# Altium schematic symbol library web.skorpio.SchLib: 147 symbols (part 1 of 2)
Pins are listed as number, name and electrical type; pins without a type are passive.

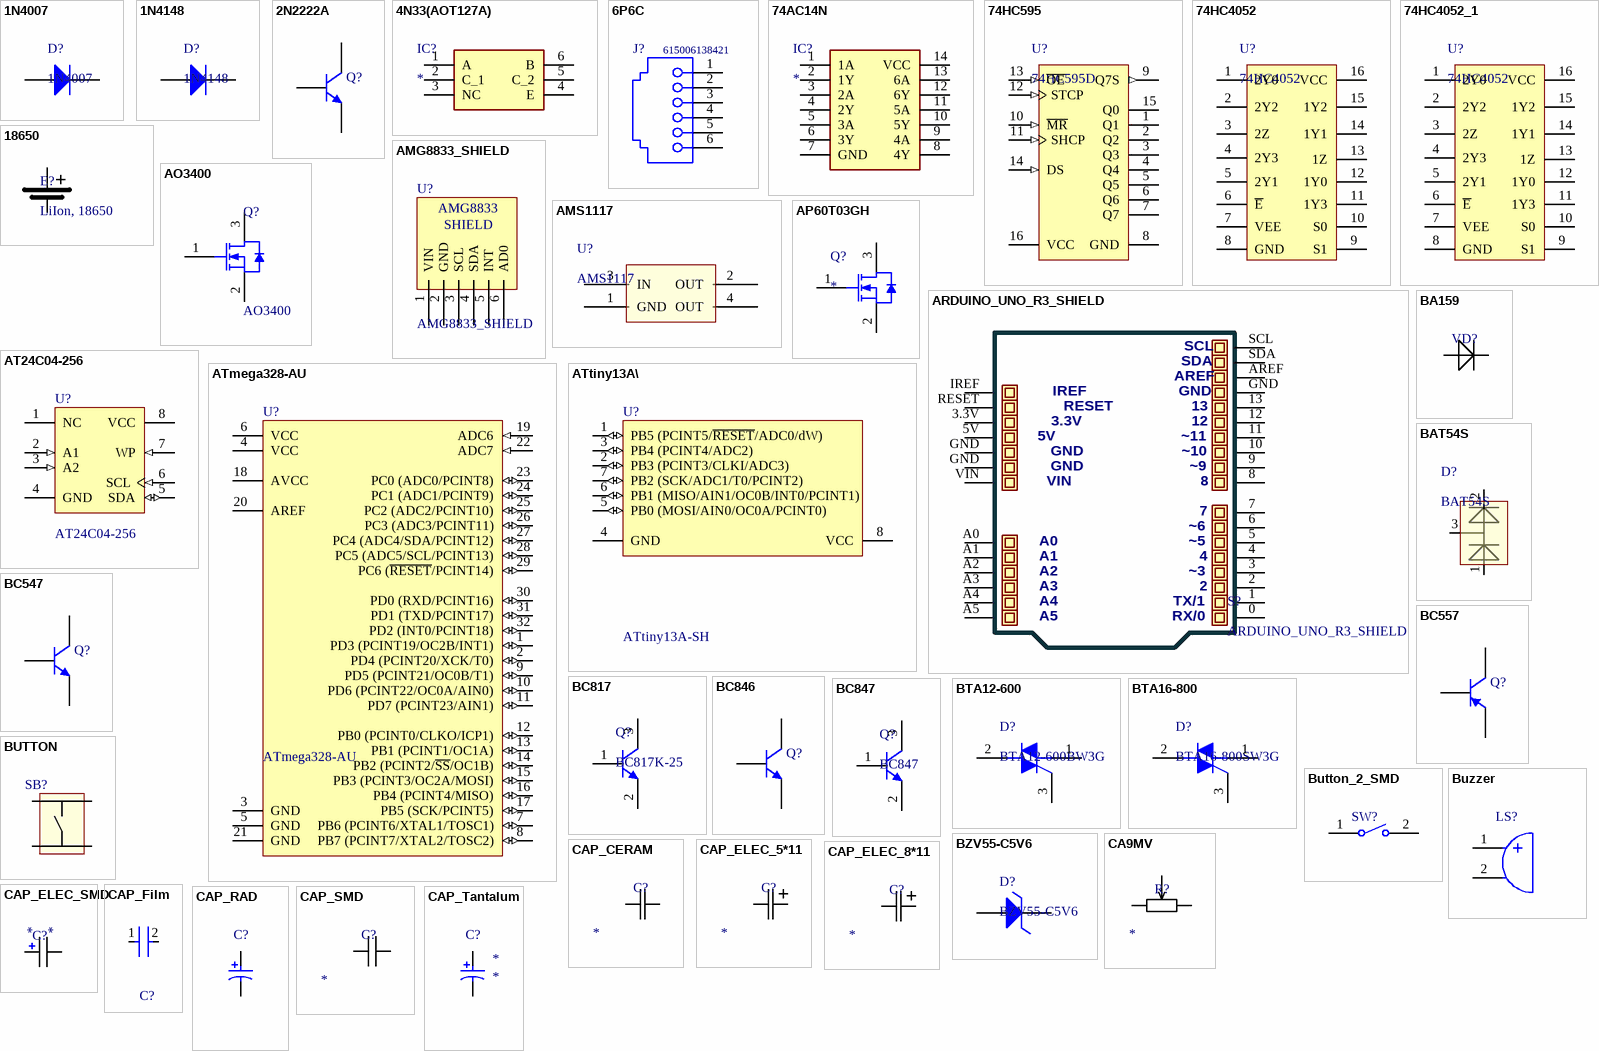
[diagram p0: symbols 1N4007 to CAP_Tantalum]

## 1N4007
designator D?
1 A Rectifier Diode, 1000 V, -65 to 175 degC, 2-Pin DO-214AC; Manufacturer: Kesenes; CD: 15 pF; VF: 1.1 V; VPK: 1000 V; IR DC: 0.05 mA; IFSM: 30 A; ComponentLink2Description: Datasheet; ComponentLink3URL: http://www.kesenes.com/PDF/1n4001-1n4007.pdf; PartNumber: 1N4007; PackageReference: DO-214AC-2; Mounting Technology: Surface Mount; PackageVersion: Mar-06; ComponentLink1Description: Manufacturer URL; ComponentLink2URL: http://www.kesenes.com/PDF/1n4001-1n4007.pdf; Operating Temperature Range: -65 to 175 degC; ComponentLink3Description: Package Specification; DatasheetVersion: Mar-06; PackageDescription: 2-Pin SMD, Body 4.2925 x 2.6925 mm, Height 2.438 mm; ComponentLink1URL: http://www.kesenes.com/
footprint DO-214 (Molded Diode, 2-Leads, Body 5,10x2,67mm, IPC Medium Density)
footprint DO-41
pins: 1 K, 2 A

## 1N4148
designator D?
High-Speed Switching Diode, 75 V, 200 mA, -60 to 200 degC, 2-Pin SOD80C, RoHS, Tape and Reel; Manufacturer: NXP Semiconductors; Current - Average Rectified (Io): 200mA(DC); Current - Reverse Leakage @ Vr: 25nA@20V; Online Catalog: StandardDiode; Capacitance @ Vr, F: 4pF@0V,1MHz; Speed: SmallSignal=; Other Names: 568-1749-6; Voltage - Forward (Vf) (Max) @ If: 1V@50mA; Diode Type: Standard; PCN Other: SOD27,66,68,80Package29/Jul/2013; Reverse Recovery Time (trr): 4ns; Voltage - DC Reverse (Vr) (Max): 75V; Mounting Type: SurfaceMount; Package / Case: DO-213AC,MINI-MELF,SOD-80; Family: Diodes,Rectifiers-Single; Package Reference: SOD80C; Standard Package: 1; Operating Temperature - Junction: 200degC(Max); Category: DiscreteSemiconductorProducts; Datasheet URL: http://www.nxp.com/documents/data_sheet/PMLL4148L_PMLL4448.pdf; Package Description: 2-Pin Metal Electrode Face Component, Body 3.5 x 1.525 mm; Supplier Device Package: LLDS;MiniMelf; Manufacturer URL: http://www.nxp.com/; Datasheet Version: Rev. 8, 02/2011; Packaging: Digi-Reel
footprint SOD80 (MELF Diode, 2-Leads, Body 3.70x1.6mm)
pins: 1 A, 2 K

## 2N2222A
designator Q?
NPN Bipolar Transistor; Published: 8-Jun-2000; LatestRevisionDate: 17-Jul-2002; LatestRevisionNote: Re-released for DXP Platform.; PackageReference: TO-226-AA; Publisher: Altium Limited; PackageDescription: TO, Flat Index; 3 In-Line, Axial Leads; Body Dia. 4.8mm; Leads 0.55 x 0.51 mm (max); Code_JEDEC: TO-226-AA
footprint SOT23
footprint TO-92 (TO, Flat Index; 3 In-Line, Axial Leads; Body Dia. 4.6mm; Leads 0.41 x 0.39 mm (max))
pins: 1 C, 2 B, 3 E

## 4N33(AOT127A)
designator IC?
Integrated Circuit; Manufacturer_Name: Vishay; Manufacturer_Part_Number: 4N33; Datasheet Link: https://componentsearchengine.com/Datasheets/2/4N33.pdf; Height: 4.61mm; Mouser Part Number: 78-4N33; Mouser Price/Stock: https://www.mouser.co.uk/ProductDetail/Vishay-Semiconductors/4N33?qs=o4busQjUnQZ1F9h5Mt7Sqw%3D%3D; Arrow Part Number: 4N33; Arrow Price/Stock: https://www.arrow.com/en/products/4n33/vishay?region=nac
footprint DIP-6 (DIP; 6 Leads; Row Spacing 7.62 mm; Pitch 2.54 mm)
pins: 1 A, 2 C_1, 3 NC, 4 E, 5 C_2, 6 B

## 6P6C
designator J?, comment 615006138421
Modular Jack WR-MJ, Tab Up, Plastic, Horizontal Entry, THT, 6P6C; Manufacturer: Wurth Elektronik; Contact Resistance: 20mOhm; Working Voltage: 120VAC; Withstanding Voltage: 1000VAC; Compliance: Leadfree/RoHS; Rated Current: 1.5A; Port: 1x1; Mounting Technology: THT; Pin Number: 6P6C; Part Number: 615006138421; Publisher: WurthElektronik; Manufacturer URL: http://www.we-online.de; Operating Temperature: -40to85degC; Datasheet URL: https://katalog.we-online.com/em/datasheet/615006138421.pdf; Packaging: Tray; Entrance: Horizontal; Package Reference: 615006138421
footprint 6P6C (Modular Jack Horizontal Plastic 6P6C Tab Up)
pins: 1, 2, 3, 4, 5, 6

## 74AC14N
designator IC?
Integrated Circuit; Manufacturer_Name: Texas Instruments; Manufacturer_Part_Number: SN74AC14N; Datasheet Link: http://uk.rs-online.com/web/p/products/6630950; Height: 5.08mm; Mouser Part Number: 595-SN74AC14N; Mouser Price/Stock: https://www.mouser.co.uk/ProductDetail/Texas-Instruments/SN74AC14N?qs=UGVLDq%2F29ujQj6ByEVkrRQ%3D%3D; Arrow Part Number: SN74AC14N; Arrow Price/Stock: https://www.arrow.com/en/products/sn74ac14n/texas-instruments?region=nac
footprint DIP14 (DIP, 14-Leads, Body 19.7x6.6mm, Pitch 2.54mm)
pins: 1 1A, 2 1Y, 3 2A, 4 2Y, 5 3A, 6 3Y, 7 GND, 8 4Y, 9 4A, 10 5Y, 11 5A, 12 6Y, 13 6A, 14 VCC

## 74HC595
designator U?, comment 74HC595D
8-Bit Serial-In, Serial or Parallel-Out Shift Register with Output Latches, 3-State, 2 to 6 V, -40 to 125 degC, 16-Pin SOP, RoHS, Tube; Manufacturer: NXP Semiconductors; Logic Case Style: SOIC; Shift Register Function: SerialtoParallel,SerialtoSerial; No. of Elements: 1Element; Supply Voltage Min: 2V; SVHC: NoSVHC(17-Dec-2014); Supply Voltage Max: 6V; IC Output Type: TriState; No. of Pins: 16Pins; Operating Temperature Min: -40degC; Operating Temperature Max: 125degC; MSL: MSL1-Unlimited; Datasheet URL: http://datasheet.octopart.com/74HC595D%2C112-Philips-datasheet-11979826.pdf; Package Reference: SOT109-1; Manufacturer URL: http://www.nxp.com/; Package URL: http://www.nxp.com/documents/outline_drawing/SOT109-1.pdf; Datasheet Version: Rev. 6, 12/2011; Packaging: Each; Package Description: 16-Pin Small Outline Integrated Circuit, Body 9.9 x 3.9 mm, Pitch 1.27 mm; Logic Type: ShiftRegister
footprint SO-16_L (SOIC, 16-Leads, Body 9.9x3.9mm, Pitch 1.27mm, IPC High Density)
footprint DIP16
pins: 1 Q1 (hiz) "parallel data output 1", 2 Q2 (hiz) "parallel data output 2", 3 Q3 (hiz) "parallel data output 3", 4 Q4 (hiz) "parallel data output 4", 5 Q5 (hiz) "parallel data output 5", 6 Q6 (hiz) "parallel data output 6", 7 Q7 (hiz) "parallel data output 7", 8 GND (power) "ground (0 V)", 9 Q7S (out) "serial data output", 10 ~{MR} (in) "master reset (active LOW)", 11 SHCP (in) "shift register clock input", 12 STCP (in) "storage register clock input", 13 ~{OE} (in) "output enable input (active LOW)", 14 DS (in) "serial data input", 15 Q0 (hiz) "parallel data output 0", 16 VCC (power) "supply voltage"

## 74HC4052
designator U?
Manufacturer: NXP Semiconductors; Logic Case Style: SOIC; Shift Register Function: SerialtoParallel,SerialtoSerial; No. of Elements: 1Element; Supply Voltage Min: 2V; SVHC: NoSVHC(17-Dec-2014); Supply Voltage Max: 6V; IC Output Type: TriState; No. of Pins: 16Pins; Logic Type: ShiftRegister; Operating Temperature Min: -40degC; Operating Temperature Max: 125degC; MSL: MSL1-Unlimited; Datasheet URL: http://datasheet.octopart.com/74HC595D%2C112-Philips-datasheet-11979826.pdf; Package Reference: SOT109-1; Manufacturer URL: http://www.nxp.com/; Package URL: http://www.nxp.com/documents/outline_drawing/SOT109-1.pdf; Datasheet Version: Rev. 6, 12/2011; Packaging: Each; Package Description: 16-Pin Small Outline Integrated Circuit, Body 9.9 x 3.9 mm, Pitch 1.27 mm
footprint SO-16_L (SOIC, 16-Leads, Body 9.9x3.9mm, Pitch 1.27mm, IPC High Density)
footprint DIP16
pins: 1 2Y0 "independent input or output", 2 2Y2 "independent input or output", 3 2Z "common input or output", 4 2Y3 "independent input or output", 5 2Y1 "independent input or output", 6 ~{E} "enable input (active LOW)", 7 VEE "negative supply voltage", 8 GND (power) "ground (0 V)", 9 S1 "select logic input", 10 S0 "select logic input", 11 1Y3 "independent input or output", 12 1Y0 "independent input or output", 13 1Z "common input or output", 14 1Y1 "independent input or output", 15 1Y2 "independent input or output", 16 VCC (power) "positive supply voltage"

## 74HC4052_1
designator U?, comment 74HC4052
Manufacturer: NXP Semiconductors; Logic Case Style: SOIC; Shift Register Function: SerialtoParallel,SerialtoSerial; No. of Elements: 1Element; Supply Voltage Min: 2V; SVHC: NoSVHC(17-Dec-2014); Supply Voltage Max: 6V; IC Output Type: TriState; No. of Pins: 16Pins; Logic Type: ShiftRegister; Operating Temperature Min: -40degC; Operating Temperature Max: 125degC; MSL: MSL1-Unlimited; Datasheet URL: http://datasheet.octopart.com/74HC595D%2C112-Philips-datasheet-11979826.pdf; Package Reference: SOT109-1; Manufacturer URL: http://www.nxp.com/; Package URL: http://www.nxp.com/documents/outline_drawing/SOT109-1.pdf; Datasheet Version: Rev. 6, 12/2011; Packaging: Each; Package Description: 16-Pin Small Outline Integrated Circuit, Body 9.9 x 3.9 mm, Pitch 1.27 mm
footprint SO-16_L (SOIC, 16-Leads, Body 9.9x3.9mm, Pitch 1.27mm, IPC High Density)
footprint DIP16
pins: 1 2Y0 (hiz), 2 2Y2 (hiz), 3 2Z (hiz), 4 2Y3 (hiz), 5 2Y1 (hiz), 6 ~{E} (hiz), 7 VEE (hiz), 8 GND (power) "ground (0 V)", 9 S1, 10 S0, 11 1Y3, 12 1Y0, 13 1Z, 14 1Y1, 15 1Y2 (hiz), 16 VCC (power) "supply voltage"

## 18650
designator E?, comment LiIon, 18650
1 cell holder
footprint 18650
footprint 18650
pins: 1, 2

## AMG8833_SHIELD
designator U?
PackageDescription: 8-Lead (0.150" Wide Body), Plastic Gull Wing Small Outline (JEDEC SOIC); PackageVersion: revC, Mar-2005; PackageReference: 8S1; Code_JEDEC: MS-012-AA; DatasheetVersion: 8517C,  Jan-2009; Code_IPC: SOIC127P600-8
footprint AMG8833_shield
footprint AMG8833_shield_90
pins: 1 VIN, 2 GND, 3 SCL, 4 SDA, 5 INT, 6 AD0
text: AMG8833; SHIELD

## AMS1117
designator U?
Voltage regulator
footprint SOT223-4
pins: 1 GND, 2 OUT, 3 IN, 4 OUT

## AO3400
designator Q?
N-channel Enhancement Mode Field-Effect Transistor; 5.8A/30V; Manufacturer: Alpha and Omega; Channel Type: N; Drain-Source Voltage Limit: 30 V; Junction Temperature: -55 to 150 degC; Gate-Source Voltage Limit: +/-12 V; PackageDescription: 3-Pin SOT23, 3.016 x 2.8 mm Body, 0.95 mm Pitch; ComponentLink2Description: Datasheet; DatasheetVersion: Rev.8, 12/2011; ComponentLink3URL: http://www.aosmd.com/res/packaging_information/SOT-23.pdf; Storage Temperature: -55 to 150 degC; ComponentLink3Description: Package Specification; PackageReference: SOT23; ComponentLink1Description: Manufacturer URL; Mounting Technology: Surface Mount; ComponentLink1URL: http://www.aosmd.com/; PartNumber: AO3400; ComponentLink2URL: http://www.aosmd.com/res/data_sheets/AO3400.pdf
footprint SOT23_L (SOT23, 3-Leads, Body 2.9x1.3 mm, Pitch 0.95 mm, IPC High Density)
pins: 1 G, 2 S, 3 D

## AP60T03GH
designator Q?
N-channel Enhancement Mode Power MOSFET 45A/30V
footprint TO252-3 (D-PAK, 3-Leads, Body 6.20x6.60mm, Pitch 2.28mm)
pins: 1 G, 2 S, 3 D

## ARDUINO_UNO_R3_SHIELD
designator S?
footprint SHIELD_ARDUINO
pins: 0, 1, 2, 3, 3.3V, 4, 5, 5V, 6, 7, 8, 9, 10, 11, 12, 13, A0, A1, A2, A3, A4, A5, AREF, GND, GND, GND, IREF, RESET, SCL, SDA, VIN
text: ~11; ~10; ~9; ~6; ~5; ~3; TX/1; RX/0

## AT24C04-256
designator U?
2-wire Bus Automotive Serial EEPROM with Write Protect, 2.5V, 8-Pin SOIC, Bulk; PackageDescription: 8-Lead (0.150" Wide Body), Plastic Gull Wing Small Outline (JEDEC SOIC); PackageVersion: revC, Mar-2005; PackageReference: 8S1; Code_JEDEC: MS-012-AA; DatasheetVersion: 8517C,  Jan-2009; Code_IPC: SOIC127P600-8
footprint SO-8_N (SOIC, 8-Leads, Body 4.9x3.9mm, Pitch 1.27mm, IPC Medium Density)
footprint SO-8_L (SOIC, 8-Leads, Body 4.9x3.9mm, Pitch 1.27mm, IPC High Density)
footprint SO-8_M (SOIC, 8-Leads, Body 4.9x3.9mm, Pitch 1.27mm, IPC Low Density)
pins: 1 NC, 2 A1 (in), 3 A2 (in), 4 GND (power), 5 SDA (io), 6 SCL (in), 7 WP (in), 8 VCC (power)

## ATmega328-AU
designator U?
8-bit AVR Microcontroller, 32KB Flash, 1KB EEPROM, 2KB SRAM, 32-pin TQFP, Industrial Grade (-40°C to 85°C); DatasheetVersion: revA, Jan-2010; PackageDescription: 32-Lead, 7x7x1.0 mm Body, 0.8mm Lead Pitch, Thin Profile Plastic Quad Flat Package (TQFP); PackageReference: 32A; Code_JEDEC: MS-026-ABA; PackageVersion: revB, Oct-2001
footprint 32A_L (Thin QFP, 32-Leads, Body 7x7mm, Pitch 0.8mm, IPC High Density)
footprint 32A_N (Thin QFP, 32-Leads, Body 7x7mm, Pitch 0.8mm, IPC Medium Density)
footprint 32A_M (Thin QFP, 32-Leads, Body 7x7mm, Pitch 0.8mm, IPC Low Density)
pins: 1 PD3 (PCINT19/OC2B/INT1) (io), 2 PD4 (PCINT20/XCK/T0) (io), 3 GND (power), 4 VCC (power), 5 GND (power), 6 VCC (power), 7 PB6 (PCINT6/XTAL1/TOSC1) (io), 8 PB7 (PCINT7/XTAL2/TOSC2) (io), 9 PD5 (PCINT21/OC0B/T1) (io), 10 PD6 (PCINT22/OC0A/AIN0) (io), 11 PD7 (PCINT23/AIN1) (io), 12 PB0 (PCINT0/CLKO/ICP1) (io), 13 PB1 (PCINT1/OC1A) (io), 14 PB2 (PCINT2/~{SS}/OC1B) (io), 15 PB3 (PCINT3/OC2A/MOSI) (io), 16 PB4 (PCINT4/MISO) (io), 17 PB5 (SCK/PCINT5) (io), 18 AVCC (power), 19 ADC6 (in), 20 AREF, 21 GND (power), 22 ADC7 (in), 23 PC0 (ADC0/PCINT8) (io), 24 PC1 (ADC1/PCINT9) (io), 25 PC2 (ADC2/PCINT10) (io), 26 PC3 (ADC3/PCINT11) (io), 27 PC4 (ADC4/SDA/PCINT12) (io), 28 PC5 (ADC5/SCL/PCINT13) (io), 29 PC6 (~{RESET}/PCINT14) (io), 30 PD0 (RXD/PCINT16) (io), 31 PD1 (TXD/PCINT17) (io), 32 PD2 (INT0/PCINT18) (io)

## ATtiny13A\
designator U?, comment ATtiny13A-SH
8-bit AVR Microcontroller, 1.8-5.5V, 1KB Flash, 64 Bytes EEPROM, 64 Bytes SRAM, 8-pin SOIC, Industrial Grade (-40°C to 85°C), Pb-Free; PackageReference: 8S2; DatasheetVersion: revD, Nov-2009; PackageVersion: revF, Apr-2008; PackageDescription: 8-Lead, 0.208" Body, Plastic Small Outline Package (EIAJ)
footprint SOIC8 (SOIC, 8-Leads, Body 4,90x3,90mm, Pitch 1,27mm, IPC Medium Density)
pins: 1 PB5 (PCINT5/~{RESET}/ADC0/dW) (io), 2 PB3 (PCINT3/CLKI/ADC3) (io), 3 PB4 (PCINT4/ADC2) (io), 4 GND (power), 5 PB0 (MOSI/AIN0/OC0A/PCINT0) (io), 6 PB1 (MISO/AIN1/OC0B/INT0/PCINT1) (io), 7 PB2 (SCK/ADC1/T0/PCINT2) (io), 8 VCC (power)

## BA159
designator VD?  (value not drawn)
footprint DO-41
pins: 1 cathode, 2 anode

## BAT54S
designator D?
footprint SOT23 - 123
pins: 1 A, 2 C, 3

## BC547
designator Q?
NPN Bipolar Transistor; Published: 8-Jun-2000; LatestRevisionDate: 17-Jul-2002; LatestRevisionNote: Re-released for DXP Platform.; PackageReference: TO-226-AA; Publisher: Altium Limited; PackageDescription: TO, Flat Index; 3 In-Line, Axial Leads; Body Dia. 4.8mm; Leads 0.55 x 0.51 mm (max); Code_JEDEC: TO-226-AA
footprint SOT23
footprint TO-92A (TO, Flat Index; 3 In-Line, Axial Leads; Body Dia. 4.5mm; Leads 0.51 x 0.48 mm (max))
pins: 1 C, 2 B, 3 E

## BC557
designator Q?
PNP Transistor; Published: 8-Jun-2000; LatestRevisionDate: 17-Jul-2002; LatestRevisionNote: Re-released for DXP Platform.; PackageReference: TO-226-AA; Publisher: Altium Limited; PackageDescription: TO, Flat Index; 3 In-Line, Axial Leads; Body Dia. 4.8mm; Leads 0.55 x 0.51 mm (max); Code_JEDEC: TO-226-AA
footprint SOT23
footprint TO-92A (TO, Flat Index; 3 In-Line, Axial Leads; Body Dia. 4.5mm; Leads 0.51 x 0.48 mm (max))
pins: 1 C, 2 B, 3 E

## BC817
designator Q?, comment BC817K-25
NPN Silicon AF Transistor, 45 V VCEO, 500 mA IC, SOT23, Reel, Green; Manufacturer: Infineon; ICBO (max): 100Â nA; Green: TRUE; VCBO (max): 50Â V; VEBO (max): 5Â V; Ptot (max): 500 mW; ICM (max): 1,000Â mA; VCEO (max): 45 V; fT (typ): 170Â MHz; IC (max): 500Â mA; IBM (max): 200Â mA; IC: 100Â mA; VCE: 1 V; ComponentLink3URL: http://www.infineon.com/dgdl/SOT23-Package_Overview.pdf?folderId=db3a30431936bc4b0119532290053c66&fileId=db3a30431936bc4b0119533468123c85; PackageDescription: 3-Pin Small Outline Transistor Package, 1.3 x 2.9 mm Body, 0.95 mm Pitch; PackageVersion: Apr-08; PackageReference: SOT23; ComponentLink2URL: http://www.infineon.com/dgdl/bc817Kseries_bc818Kseries.pdf?folderId=db3a304314dca389011545f4eb561884&fileId=db3a304314dca38901154636aab91919; Polarity: NPN; Packing: Reel; ComponentLink2Description: Datasheet; Mounting Technology: Surface Mount; ComponentLink1Description: Manufacturer URL; PartNumber: BC817K-25; ComponentLink1URL: http://www.infineon.com/; ComponentLink3Description: Package Specification
footprint SOT23_L (SOT23, 3-Leads, Body 2.9x1.3 mm, Pitch 0.95 mm, IPC High Density)
footprint SOT23_M (SOT23, 3-Leads, Body 2.9x1.3 mm, Pitch 0.95 mm, IPC Low Density)
footprint SOT23_N (SOT23, 3-Leads, Body 2.9x1.3 mm, Pitch 0.95 mm, IPC Medium Density)
pins: 1 B, 2 E, 3 C

## BC846
designator Q?
NPN Bipolar Transistor; Published: 8-Jun-2000; LatestRevisionDate: 17-Jul-2002; LatestRevisionNote: Re-released for DXP Platform.; PackageReference: TO-226-AA; Publisher: Altium Limited; PackageDescription: TO, Flat Index; 3 In-Line, Axial Leads; Body Dia. 4.8mm; Leads 0.55 x 0.51 mm (max); Code_JEDEC: TO-226-AA
footprint SOT23 - 123; pin to pad 1>3 2>1 3>2
pins: 1 C, 2 B, 3 E

## BC847
designator Q?
NPN 45В 0.1А; Manufacturer: Infineon; PartNumber: BC817K-25; ICBO (max): 100Â nA; Green: TRUE; VCBO (max): 50Â V; VEBO (max): 5Â V; Ptot (max): 500 mW; ICM (max): 1,000Â mA; VCEO (max): 45 V; fT (typ): 170Â MHz; Packing: Reel; IC (max): 500Â mA; IBM (max): 200Â mA; IC: 100Â mA; VCE: 1 V; ComponentLink3URL: http://www.infineon.com/dgdl/SOT23-Package_Overview.pdf?folderId=db3a30431936bc4b0119532290053c66&fileId=db3a30431936bc4b0119533468123c85; PackageDescription: 3-Pin Small Outline Transistor Package, 1.3 x 2.9 mm Body, 0.95 mm Pitch; PackageVersion: Apr-08; PackageReference: SOT23; ComponentLink2URL: http://www.infineon.com/dgdl/bc817Kseries_bc818Kseries.pdf?folderId=db3a304314dca389011545f4eb561884&fileId=db3a304314dca38901154636aab91919; Polarity: NPN; ComponentLink2Description: Datasheet; Mounting Technology: Surface Mount; ComponentLink1Description: Manufacturer URL; ComponentLink1URL: http://www.infineon.com/; ComponentLink3Description: Package Specification
footprint SOT23_L (SOT23, 3-Leads, Body 2.9x1.3 mm, Pitch 0.95 mm, IPC High Density)
footprint SOT23_M (SOT23, 3-Leads, Body 2.9x1.3 mm, Pitch 0.95 mm, IPC Low Density)
footprint SOT23_N (SOT23, 3-Leads, Body 2.9x1.3 mm, Pitch 0.95 mm, IPC Medium Density)
pins: 1 B, 2 E, 3 C

## BTA12-600
designator D?, comment BTA12-600BW3G
Triacs, Silicon Bidirectional Thyristor, 3-Pin TO-220, Pb-Free, Tube; Manufacturer: On Semiconductor; ITSM Max (A): 105; IGT Max (mA): 50; IT(RMS) Max (A): 12; PartNumber: BTA12-600BW3G; ComponentLink1Description: Manufacturer URL; ComponentLink1URL: http://www.onsemi.com/; ComponentLink3URL: http://www.onsemi.com/pub_link/Collateral/221A-07.PDF; ComponentLink3Description: Package Specification; RoHS: Pb-Free; PackageVersion: Rev. O, 07/2008; ComponentLink2Description: Datasheet; PackageDescription: 3-Pin Flange Mount, Vertical Straight Lead, Body 9.97 x 4.445 mm, Pitch 2.54 mm; ComponentLink2URL: http://www.onsemi.com/pub_link/Collateral/BTA12-600BW3-D.PDF; PackageReference: TO-220-3-221A-07; DatasheetVersion: Rev. 1; Packing: Tube; Mounting Technology: Through Hole
footprint TO-220 (FM, 3-Leads, Body 10.2x4.7mm, Pitch 2.54mm)
pins: 1 MT1, 2 MT2, 3 G

## BTA16-800
designator D?, comment BTA16-800SW3G
Triacs, Silicon Bidirectional Thyristor, 3-Pin TO-220, Pb-Free, Tube; Manufacturer: On Semiconductor; IT(RMS) Max (A): 16; IGT Max (mA): 10; ITSM Max (A): 170; PackageDescription: 3-Pin Flange Mount, Vertical Straight Lead, Body 9.97 x 4.445 mm, Pitch 2.54 mm; PackageVersion: Rev. O, 07/2008; ComponentLink3Description: Package Specification; ComponentLink2Description: Datasheet; ComponentLink3URL: http://www.onsemi.com/pub_link/Collateral/221A-07.PDF; Packing: Tube; Mounting Technology: Through Hole; ComponentLink2URL: http://www.onsemi.com/pub_link/Collateral/BTA16-600SW3-D.PDF; RoHS: Pb-Free; ComponentLink1URL: http://www.onsemi.com/; PackageReference: TO-220-3-221A-07; PartNumber: BTA16-800SW3G; ComponentLink1Description: Manufacturer URL; DatasheetVersion: Rev. 1
footprint TO-220 (FM, 3-Leads, Body 10.2x4.7mm, Pitch 2.54mm)
pins: 1 MT1, 2 MT2, 3 G

## BUTTON
designator SB?  (value not drawn)
BUTTON, DTSM-type
footprint Button_SMD
footprint Button_Dip
footprint Button_Dip_1
pins: 1, 2, 3, 4

## Button_2_SMD
designator SW?
Manufacturer: TE Connectivity; Actuator Length: 1.07mm; Electrical Life: 20000Cycles; Actuator Material: Polyamide; Current Rating: 50mA; Illumination Type: Illuminated; Voltage Rating (DC): 24V; Contact Resistance: 100mOhm; Case\/Package: SMD/SMT; Operating Force: 180gf; Switch Travel: 0.25mm; Max Voltage Rating (DC): 12V; Throw Configuration: SPST; Packaging: LoosePiece; Max Operating Temperature: 85degC; ELV: Compliant; Package Description: 2-Pin Surface Mount Device, Body 6 x 3.5 mm, Pitch 9.19 mm; RoHSCompliant: true; Manufacturer URL: http://www.te.com/; Contact Plating: Silver; Contact Material: Brass; Mounting Technology: SurfaceMount; Contact Current Rating: 50mA; Datasheet Version: Rev. C2, 08/2014; Datasheet URL: http://www.te.com/commerce/DocumentDelivery/DDEController?Action=showdoc&DocId=Customer+Drawing%7F1437566-3%7FC2%7Fpdf%7FEnglish%7FENG_CD_1437566-3_C2_1437566_3_1_c.dwg.pdf%7F1437566-3; Mechanical Life: 20000Cycles; Package Reference: FSMSM; REACH SVHC: Unknown; Orientation: Straight; Min Operating Temperature: -35degC; Lead Free: LeadFree; Termination: GullWing; Package Quantity: 1000; Mount: SurfaceMount
footprint SMD_BUT_6.3mm (SMD, 2-Leads, Body 6x3.5mm, Pitch 9.19mm)
pins: 1, 2

## Buzzer
designator LS?
PartNumber: YMD-12095-G-6V; Manufacturer: Huakai Electronic; Soud Output: >=85 dB; Rated Current: <=32 mA; Resonant Freq: 2300 +/- 300 Hz; Operating Voltage: 4 to 8 V; Rated Voltage: 6 V; PackageDescription: 2-Pin THD, Dia 12 mm, Height 10 mm; Mounting Technology: Through Hole; ComponentLink3URL: å°è£…æ•°æ®ï¼š http://www.hongyan-e.com/web/fmq011.htm; PackageReference: YMD-12095-G-2; RoHS: TRUE; ComponentLink1Description: Manufacturer URL; Operating Temperature: -20 to 45 degC; ComponentLink2Description: Datasheet; ComponentLink1URL: http://www.xhhkdz.com/; ComponentLink3Description: URL Link1; ComponentLink2URL: http://www.xhhkdz.com/product/?103_688.html
footprint Buzzer-12095-Active (Buzzer, 2-Leads, Dia 12mm, Height 10mm)
pins: 1 A, 2 K

## BZV55-C5V6
designator D?
Manufacturer: NXP Semiconductors; Current - Average Rectified (Io): 200mA(DC); Current - Reverse Leakage @ Vr: 25nA@20V; Online Catalog: StandardDiode; Capacitance @ Vr, F: 4pF@0V,1MHz; Speed: SmallSignal=; Other Names: 568-1749-6; Voltage - Forward (Vf) (Max) @ If: 1V@50mA; Diode Type: Standard; PCN Other: SOD27,66,68,80Package29/Jul/2013; Reverse Recovery Time (trr): 4ns; Voltage - DC Reverse (Vr) (Max): 75V; Mounting Type: SurfaceMount; Package / Case: DO-213AC,MINI-MELF,SOD-80; Family: Diodes,Rectifiers-Single; Package Reference: SOD80C; Standard Package: 1; Operating Temperature - Junction: 200degC(Max); Category: DiscreteSemiconductorProducts; Datasheet URL: http://www.nxp.com/documents/data_sheet/PMLL4148L_PMLL4448.pdf; Package Description: 2-Pin Metal Electrode Face Component, Body 3.5 x 1.525 mm; Supplier Device Package: LLDS;MiniMelf; Manufacturer URL: http://www.nxp.com/; Datasheet Version: Rev. 8, 02/2011; Packaging: Digi-Reel
footprint SOD80 (MELF Diode, 2-Leads, Body 3.70x1.6mm)
pins: 1 A, 2 K

## CA9MV
designator R?
Trimmer potentiometer CA9MV
footprint CA9MV
pins: 1, 2, 3

## CAP_CERAM
designator C?
Ceramic capacitor; Val: *
footprint CAP_CERAM
pins: 1, 2

## CAP_ELEC_5*11
designator C?
Electrolitic capacitor; Val: *
footprint CAP_ELEC_5*11
pins: 1, 2

## CAP_ELEC_8*11
designator C?
Electrolitic capacitor; Val: *
footprint CAP_ELEC_8*11
pins: 1, 2

## CAP_ELEC_SMD
designator C?
Rated Capacitance: *; Rated Voltage: *
footprint ECAP_SMD_6.3mmx5.4mm (Aluminum Electrolytic Capacitor, Body 6.8x6.8mm, IPC Medium Density)
footprint ECAP_SMD_8mmx10mm (Aluminum Electrolytic Capacitor, Diameter 8mm, Height 10.8mm, Pitch 6.5mm)
pins: 1, 2

## CAP_Film
designator C?
Manufacturer Part Number: ECQ-E4224KF; Manufacturer: Panasonic Electronic Components; Voltage Rating: 400V; Material: Metallized Polyester; Capacitance: 0.22uF; Tolerance: 10%; Value: 0.22uF; RoHS: TRUE; Automotive: No; ComponentLink2URL: https://industrial.panasonic.com/cdbs/www-data/pdf/RDI0000/ABD0000C179.pdf; Device Class L2: Capacitors; Temperature: -40°C to +105°C; ComponentLink2Description: Datasheet; Digikey Description: CAP FILM 0.22UF 10% 400VDC RAD; Category: Cap; Height: 13mm; Package: 0; Lead Free: Yes; Device Class L3: Film Capacitors; Temperature Range Low: -40°C; Temperature Range High: +105°C; Mouser Description: Film Capacitors 400VDC 0.22uF 10% MPET L/S=15mm; Device Class L1: Passive Components; Octopart: https://octopart.com/ecq-e4224kf-panasonic-215929
footprint FP-ECQ-E4224KF-MFG
pins: 1, 2

## CAP_RAD
designator C?
Max Supply Voltage: 3.6 V; Case\Package: QFN; Min Supply Voltage: 2.1 V; Interface: Serial; ComponentLink2URL: http://industrial.panasonic.com/cdbs/www-data/pdf/RDF0000/DMF0000COL68.pdf; Max Operating Temperature: 85 degC; ComponentLink1Description: Manufacturer URL; RoHSCompliant: true; ComponentLink1URL: http://www.panasonic.com/; ComponentLink2Description: Datasheet; PackageDescription: 2-Pin Radial Lead, Dia 5 mm, Body Length 11 mm; REACH SVHC: No SVHC; PackageReference: CAPPR55-200-1100X500X1200; Pins: 24; DatasheetVersion: Mar-16; Packaging: Cut Tape; Min Operating Temperature: -40 degC
footprint CAP_RAD5 (2-Leads, Dia 5mm,)
pins: 1, 2

## CAP_SMD
designator C?
Ceramic capacitor, 0805; Val: *
footprint CAP0805 (Chip Capacitor, 2-Leads, Body 2,00x1,20mm, IPC Medium Density)
footprint CAPC1206(3216)170_L (Chip Capacitor, Body 3.2x1.6mm, Height 1.7mm, IPC High Density)
footprint CAPC1210(3225)115_N (Chip Capacitor, Body 3.2x2.5mm, Height 1.15mm, IPC Medium Density)
pins: 1, 2

## CAP_Tantalum
designator C?
Capacitance: *; Voltage: *
footprint CAP_3530 (Molded Capacitor, 2-Leads, Body 3.70x3.00mm, IPC Low Density)
footprint CAP_TAN 3216 (Molded Capacitor, 2-Leads, Body 3.40x1.80mm, IPC High Density)
footprint CAP_TAN 3528 (Molded Capacitor, 2-Leads, Body 3.7x3mm, IPC Low Density)
footprint CAP_TAN 4.3x7.3 (Molded Capacitor, 2-Leads, Body 7.60x4.60mm, IPC Low Density)
pins: 1, 2

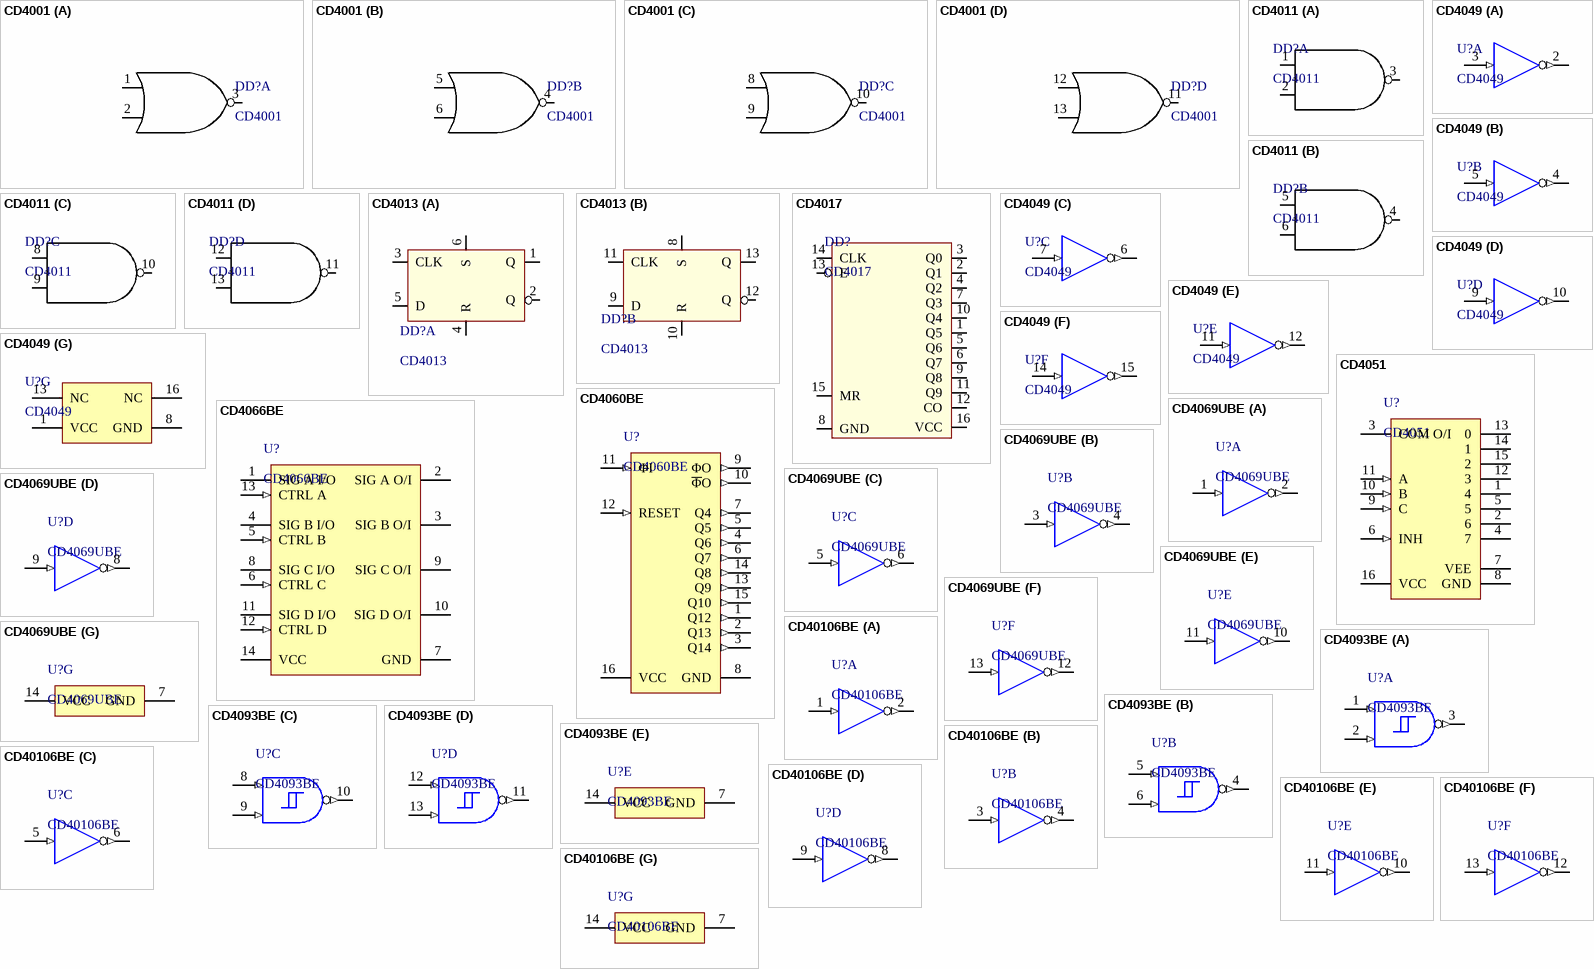
[diagram p1: symbols CD4001 to CD40106BE]

## CD4001
designator DD?
CD4001, DIP-14
footprint DIP14
part A pins: 1, 2, 3, 7 GND hidden to GND, 14 VCC hidden to VCC
part B pins: 4, 5, 6
part C pins: 8, 9, 10
part D pins: 11, 12, 13

## CD4011
designator DD?
CD4011, DIP-14
footprint DIP14
part A pins: 1, 2, 3
part B pins: 4, 5, 6
part C pins: 8, 9, 10
part D pins: 11, 12, 13

## CD4013
designator DD?
CD4013, DIP-14
footprint DIP14
part A pins: 1 Q, 2 Q, 3 CLK, 4 R, 5 D, 6 S, 7 GND hidden to GND, 14 VCC hidden to VCC
part B pins: 8 S, 9 D, 10 R, 11 CLK, 12 Q, 13 Q

## CD4017
designator DD?
CD4017, DIP-16
footprint DIP16
pins: 1 Q5, 2 Q1, 3 Q0, 4 Q2, 5 Q6, 6 Q7, 7 Q3, 8 GND hidden to GND, 8 GND, 9 Q8, 10 Q4, 11 Q9, 12 CO, 13 E, 14 CLK, 15 MR, 16 VCC hidden to VCC, 16 VCC

## CD4049
designator U?
CMOS Hex Inverting Buffer/Converter, D0016A, TUBE; Generic Part Number: CD4049UB; Manufacturer: Texas Instruments; Technology Family: CD4000; tpd @ Nom Voltage(Max)(ns): 120; Schmitt Trigger: No; F @ Nom Voltage(Max)(Mhz): 12; Bits(#): 6; Rating: Military; VCC(Min)(V): 3; Output Drive (IOL/IOH)(Max)(mA): -1.2/5.2; VCC(Max)(V): 18; Voltage(Nom)(V): 5; ICC @ Nom Voltage(Max)(mA): 0.03; Code_JEDEC: MS-012 variation AC; Input Type: CMOS; Operating Temperature Range(C): -55 to 125; PackageReference: D0016A; Output Type: CMOS; DatasheetVersion: SCHS046I
footprint SO-16_N (SOIC, 16-Leads, Body 9.9x3.9mm, Pitch 1.27mm, IPC Medium Density)
footprint SO-16_L (SOIC, 16-Leads, Body 9.9x3.9mm, Pitch 1.27mm, IPC High Density)
footprint SO-16_M (SOIC, 16-Leads, Body 9.9x3.9mm, Pitch 1.27mm, IPC Low Density)
footprint DIP16
part A pins: 2 G=~{A} (out), 3 A (in)
part B pins: 4 H=~{B} (out), 5 B (in)
part C pins: 6 I=~{C} (out), 7 C (in)
part D pins: 9 D (in), 10 J=~{D} (out)
part E pins: 11 E (in), 12 K=~{E} (out)
part F pins: 14 F (in), 15 L=~{F} (out)
part G pins: 1 VCC (power), 8 GND (power), 13 NC, 16 NC

## CD4051
designator U?
CMOS Single 8-Channel Analog Multiplexer/Demultiplexer with Logic-Level Conversion, D0016A, LARGE T&R; PartNumber: CD4051BM96; Part Number: CD4051B; Configuration: 1 X 1：8 MUX; Bandwidth(Max)(MHz): 20; Output Drive (IOL/IOH)(Max)(mA): 1; Crosstalk: Yes; VCC(Max)(V): 18; Ron(Typ)(Ohms): 125; ICC(Typ)(mA): 0.00008; VCC(Min)(V): 5; Rating: Military; Ron(Max)(Ohms): 240; Code_IPC: MS-012 variation AC; PackageVersion: http://www.ti.com/lit/ml/mpds178g/mpds178g.pdf; ComponentLink1Description: Manufacturer URL; DatasheetVersion: SCHS047G; PackageReference: D0016A; ComponentLink2Description: Datasheet; Output Type: CMOS; Operating Temperature Range(C): -55 to 125; ComponentLink1URL: http://www.ti.com/; ComponentLink2URL: http://www.ti.com/lit/ds/symlink/cd4051b.pdf
footprint SO-16_L (SOIC, 16-Leads, Body 9.9x3.9mm, Pitch 1.27mm, IPC High Density)
footprint SO-16_N (SOIC, 16-Leads, Body 9.9x3.9mm, Pitch 1.27mm, IPC Medium Density)
footprint SO-16_M (SOIC, 16-Leads, Body 9.9x3.9mm, Pitch 1.27mm, IPC Low Density)
footprint DIP16
pins: 1 4, 2 6, 3 COM O/I, 4 7, 5, 6 INH (in), 7 VEE (power), 8 GND (power), 9 C (in), 10 B (in), 11 A (in), 12 3, 13 0, 14 1, 15 2, 16 VCC (power)

## CD4060BE
designator U?
CMOS 14-Stage Ripple-Carry Binary Counter/Divider and Oscillator, N0016A, TUBE; Manufacturer: Texas Instruments; F @ Nom Voltage(Max)(Mhz): 8; Schmitt Trigger: No; VCC(Max)(V): 18; Bits(#): 10; Inputs: 1; Rating: Military; tpd @ Nom Voltage(Max)(ns): 300; Technology Family: CD4000; Output Drive (IOL/IOH)(Max)(mA): 1.5/-1.5; VCC(Min)(V): 3; ICC @ Nom Voltage(Max)(mA): 0.03; ComponentLink1Description: Manufacturer URL; Function: Counter; ComponentLink2Description: Datasheet; Generic Part Number: CD4060B; Operating Temperature Range(C): -55 to 125; ComponentLink1URL: http://www.ti.com/; ComponentLink2URL: http://www.ti.com/lit/ds/symlink/cd4060b.pdf; Voltage(Nom)(V): 10; Code_JEDEC: MS-001; PackageReference: N0016A; ComponentLink3Description: Package Specification; PartNumber: CD4060BE; Input Type: CMOS; ComponentLink3URL: http://www.ti.com/lit/ml/mpdi002c/mpdi002c.pdf; Output Type: CMOS; Type: Binary; DatasheetVersion: SCHS049C
footprint DIP16
pins: 1 Q12 (out), 2 Q13 (out), 3 Q14 (out), 4 Q6 (out), 5 Q5 (out), 6 Q7 (out), 7 Q4 (out), 8 GND (power), 9 ΦO (out), 10 ~{Φ}O (out), 11 ΦI (in), 12 RESET (in), 13 Q9 (out), 14 Q8 (out), 15 Q10 (out), 16 VCC (power)

## CD4066BE
designator U?
CMOS Quad Bilateral Switch, N0014A, TUBE; VCC(Min)(V): 3; Rating: Military; Bandwidth(Max)(MHz): 40; Ron(Typ)(Ohms): 125; ICC(Typ)(mA): 0.00002; Configuration: 4 X SPST (NO); VCC(Max)(V): 18; Ron(Max)(Ohms): 240; Crosstalk: Yes; Part Number: CD4066B; PartNumber: CD4066BE; PackageReference: N0014A; Operating Temperature Range(C): -55 to 125; Output Type: CMOS; PackageVersion: http://www.ti.com/lit/ml/mpdi002c/mpdi002c.pdf; ComponentLink2URL: http://www.ti.com/lit/ds/symlink/cd4066b.pdf; ComponentLink1Description: Manufacturer URL; ComponentLink2Description: Datasheet; ComponentLink1URL: http://www.ti.com/; DatasheetVersion: SCHS051D; Code_JEITA: 5.08; Code_IPC: MS-001
footprint DIP14
pins: 1 SIG A I/O, 2 SIG A O/I, 3 SIG B O/I, 4 SIG B I/O, 5 CTRL B (in), 6 CTRL C (in), 7 GND (power), 8 SIG C I/O, 9 SIG C O/I, 10 SIG D O/I, 11 SIG D I/O, 12 CTRL D (in), 13 CTRL A (in), 14 VCC (power)

## CD4069UBE
designator U?
CMOS Hex Inverter, N0014A, TUBE; Manufacturer: Texas Instruments; Rating: Catalog; Bits(#): 6; Voltage(Nom)(V): 5; VCC(Max)(V): 18; Schmitt Trigger: No; Technology Family: CD4000; F @ Nom Voltage(Max)(Mhz): 12; Output Drive (IOL/IOH)(Max)(mA): -1/1; VCC(Min)(V): 3; tpd @ Nom Voltage(Max)(ns): 110; ICC @ Nom Voltage(Max)(mA): 0.0075; Output Type: CMOS; DatasheetVersion: SCHS054C; PackageReference: N0014A; Generic Part Number: CD4069UB; Code_JEDEC: MS-001; Operating Temperature Range(C): -55 to 125; Input Type: CMOS
footprint DIP14
part A pins: 1 A (in), 2 G=~{A} (out)
part B pins: 3 B (in), 4 H=~{B} (out)
part C pins: 5 C (in), 6 I=~{C} (out)
part D pins: 8 J=~{D} (out), 9 D (in)
part E pins: 10 K=~{E} (out), 11 E (in)
part F pins: 12 L=~{F} (out), 13 F (in)
part G pins: 7 GND (power), 14 VCC (power)

## CD4093BE
designator U?
CMOS Quad 2-Input NAND Schmitt Triggers, N0014A, TUBE; Manufacturer: Texas Instruments; ICC @ Nom Voltage(Max)(mA): 0.06; VCC(Min)(V): 3; Rating: Catalog; Bits(#): 4; Technology Family: CD4000; Output Drive (IOL/IOH)(Max)(mA): 1.5/-1.5; VCC(Max)(V): 18; Voltage(Nom)(V): 10; Schmitt Trigger: Yes; F @ Nom Voltage(Max)(Mhz): 8; DatasheetVersion: SCHS115D; PackageReference: N0014A; Code_JEDEC: MS-001; Output Type: CMOS; Input Type: CMOS; Generic Part Number: CD4093B; Operating Temperature Range(C): -55 to 125
footprint DIP14
part A pins: 1 A (in), 2 B (in), 3 J (out)
part B pins: 4 K (out), 5 C (in), 6 D (in)
part C pins: 8 E (in), 9 F (in), 10 L (out)
part D pins: 11 M (out), 12 G (in), 13 H (in)
part E pins: 7 GND (power), 14 VCC (power)

## CD40106BE
designator U?
CMOS Hex Schmitt Triggers, N0014A, TUBE; Manufacturer: Texas Instruments; VCC(Max)(V): 18; Technology Family: CD4000; Bits(#): 6; ICC @ Nom Voltage(Max)(mA): 0.03; F @ Nom Voltage(Max)(Mhz): 12; tpd @ Nom Voltage(Max)(ns): 280; Rating: Catalog; Voltage(Nom)(V): 5; Output Drive (IOL/IOH)(Max)(mA): -1/1; VCC(Min)(V): 3; Schmitt Trigger: Yes; Output Type: CMOS; Operating Temperature Range(C): -55 to 125; Code_JEDEC: MS-001; ComponentLink1URL: http://www.ti.com/; Input Type: CMOS; ComponentLink2Description: Datasheet; PackageReference: N0014A; Generic Part Number: CD40106B; ComponentLink3URL: http://www.ti.com/lit/ml/mpdi002c/mpdi002c.pdf; ComponentLink2URL: http://www.ti.com/lit/ds/symlink/cd40106b.pdf; ComponentLink1Description: Manufacturer URL; PartNumber: CD40106BE; DatasheetVersion: SCHS097D; ComponentLink3Description: Package Specification
footprint DIP14
part A pins: 1 A (in), 2 G=~{A} (out)
part B pins: 3 B (in), 4 H=~{B} (out)
part C pins: 5 C (in), 6 I=~{C} (out)
part D pins: 8 J=~{D} (out), 9 D (in)
part E pins: 10 K=~{E} (out), 11 E (in)
part F pins: 12 L=~{F} (out), 13 F (in)
part G pins: 7 GND (power), 14 VCC (power)

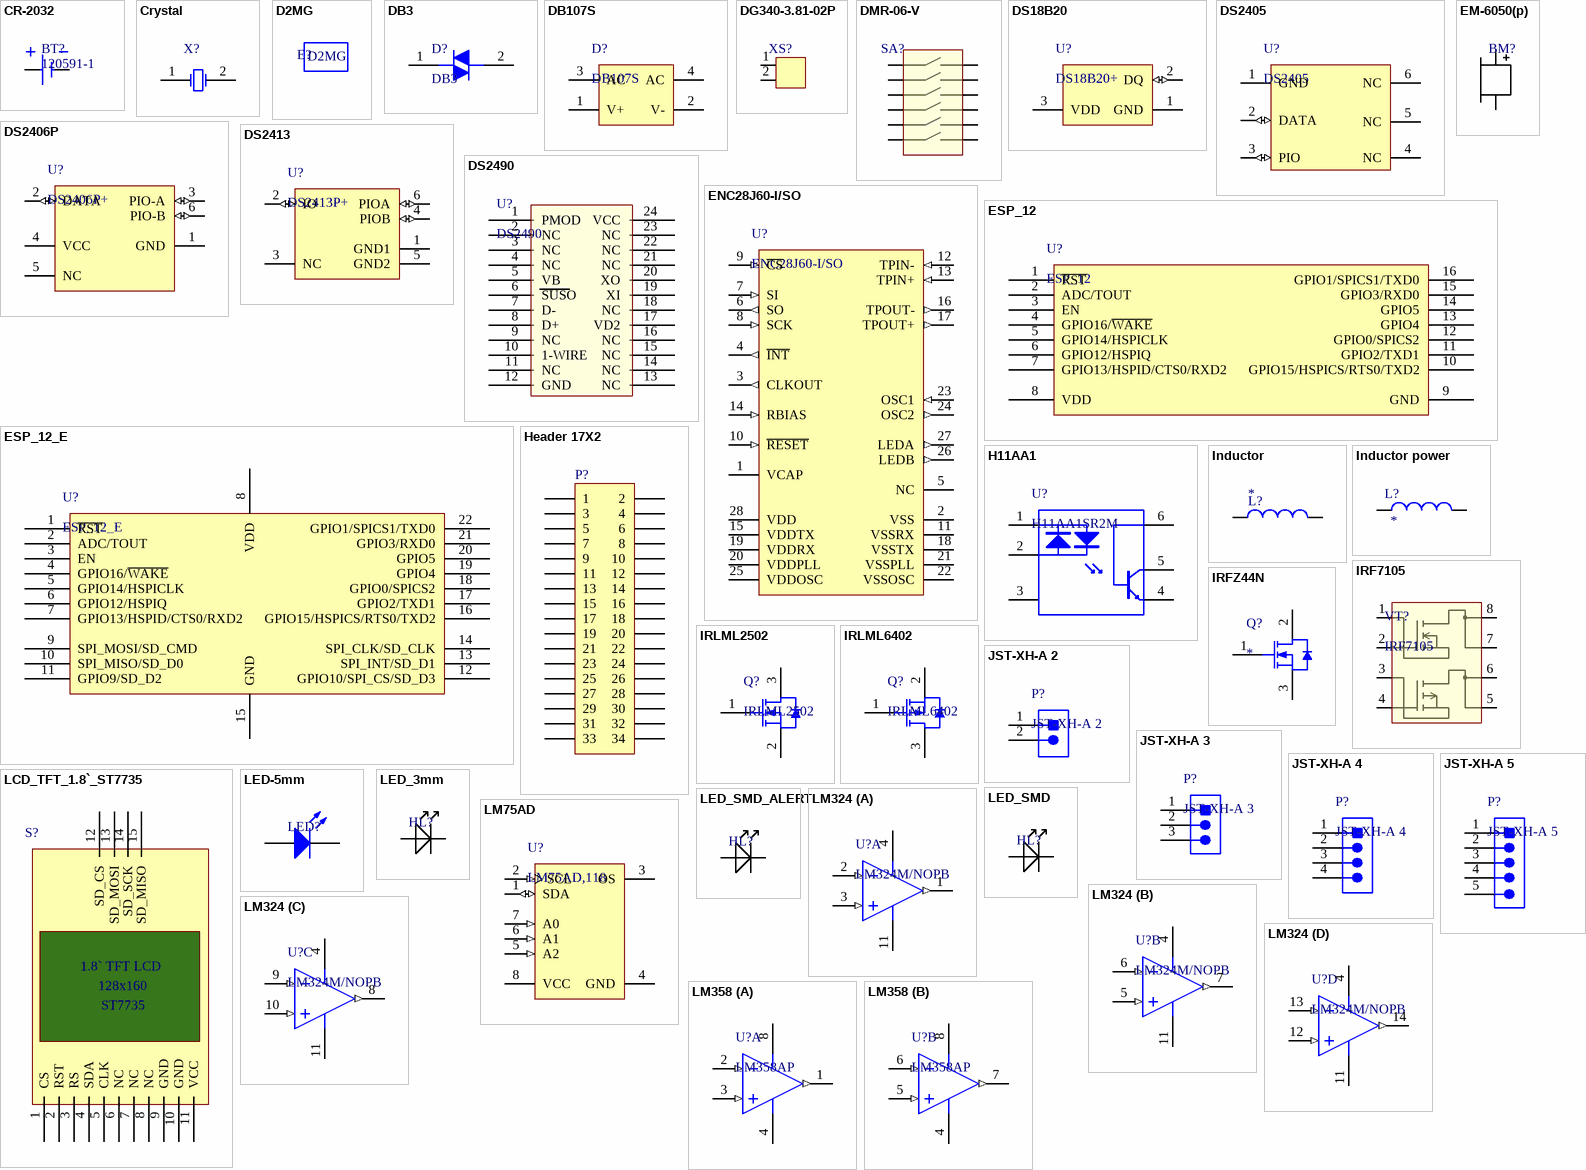
[diagram p2: symbols CR-2032 to LM358]

## CR-2032
designator BT?, comment 120591-1
Lithium Battery Holder for CR2032 3V Cell; Manufacturer: TE Connectivity; Body Shape: Horizontal Cylindrical; Packing Type: Tray; ComponentLink2Description: Datasheet; ComponentLink2URL: http://www.te.com/commerce/DocumentDelivery/DDEController?Action=showdoc&DocId=Customer+Drawing%7F120591%7FH%7Fpdf%7FEnglish%7FENG_CD_120591_H.pdf%7F120591-1; DatasheetVersion: Rev. H, 01/2013; PackageReference: 120591-1; ComponentLink1Description: Manufacturer URL; Mounting Technology: Through Hole; PackageDescription: Lithium Battery Holder; ComponentLink1URL: http://www.te.com/; PartNumber: 120591-1
footprint TECO-120591-1-2_V (Lithium Battery Holder)
pins: 1 +, 2 -

## Crystal
designator X?
Low Profile Crystal; Brand: ABRACON; Case Length: 11.4mm; Frequency Stability: 50PPM; ESR: 80Ohms; Case Height: 4.2mm; Tolerance: 30PPM; Frequency: 8MHz; Case Width: 4.7mm; Load Capacitance: 18pF; Datasheet Version: 04/2011; Termination Style: SMD/SMT; Dimensions: 4.7mmWx11.4mmLx4.2mmH; Packaging: Reel; Manufacturer: ABRACON; Package URL: http://www.abracon.com/Support/PackageDrawing/Resonators/ABLS-2D.pdf; Mounting Technology: SurfaceMount; Package Reference: ABLS-14.7456MHZ-B2-T; Product Category: Crystals; Package Description: 2-Pin Surface Mount Device, Body 11.4 x 4.7 mm; Package / Case: HC-49/US; Mounting Style: SMD/SMT; Operating Temperature Range: -20Cto+70C; Series: ABLS; Factory Pack Quantity: 1000; Datasheet URL: http://www.abracon.com/Resonators/abls.pdf; Manufacturer URL: http://www.abracon.com/; RoHS: Details; Type: LowProfileMicroprocessorCrystal
footprint Crystal_SMD (SMD, 2-Leads, Body 11.4x4.7mm)
footprint Crystal_DIP (THD, 2-Leads, Body 11.05x4.65mm, Pitch 4.9mm)
footprint Crystal_DIP - 3x8 (THD, 2-Leads, Body 9.2x3.3mm)
pins: 1 X1, 2 X2

## D2MG
designator E?
CASE
footprint D2MG3

## DB3
designator D?
Bi-Directional Trigger Diode, 150 mW, -40 to 125 degC, 2-Pin THD, RoHS, Tape and Reel; Brand: FairchildSemiconductor; Unit Weight: 0.004445oz; On-State RMS Current - It RMS: 2A; Off-State Capacitance CO: 22nF; Breakover Current IBO Max: 0.1mA; Off-State Leakage Current @ VDRM IDRM: 0.01mA; Breakover Voltage VBO: 32V; Manufacturer URL: https://www.fairchildsemi.com/; Package Description: 2-Pin Through Hole Diode, Dia 1.72 mm, Body Length 3.805 mm; Package Reference: DO-35-2; Mounting Style: ThroughHole; Series: DB3; Package / Case: DO-35; RoHS: Details; Datasheet Version: Rev. A1, 09/2010; Packaging: Reel; Package URL: https://www.fairchildsemi.com/package-drawings/DO/DO35A.pdf; Minimum Operating Temperature: -40C; Maximum Operating Temperature: +125C; Factory Pack Quantity: 5000; Product Category: Triacs; Manufacturer: FairchildSemiconductor; Datasheet URL: https://datasheet.ciiva.com/4748/db3-221685-4748448.pdf; On-State RMS Current (It RMS): 2A; Mounting Technology: ThroughHole
footprint DO-35 (Footprint not found)
pins: 1 CATHODE, 2 ANODE

## DB107S
designator D?
Bridge Rectifier, 1 A, 1000V -55 to 150 degC, 4-Pin SMD, RoHS, Tape and Reel; Manufacturer: FairchildSemiconductor; Peak Average Forward Current: 0.5@Ta=50CA; Peak Reverse Repetitive Voltage: 600V; Peak Reverse Current: 5uA; Peak Forward Voltage: 1V; Bridge Type: SinglePhase; Configuration: Single; Rad Hard: No; Manufacturer URL: https://www.fairchildsemi.com/; Category: BridgeRectifier; Packaging: Tape&Reel; Operating Temperature: -55to150°C; Package Description: 4-Pin Surface Mount Device, Body 4.725 x 3.9 mm, Pitch 2.54 mm; Package Reference: MBXS; Datasheet URL: http://www.fairchildsemi.com/datasheets/MB/MB1S.pdf; Mounting: SurfaceMount; Datasheet Version: Rev. 1.2.3, 04/2014; Mounting Technology: SurfaceMount; Package: 4SOICN
footprint MB6S (SMD, 4-Leads, Body 4.725x3.9mm, Pitch 2.54mm)
pins: 1 V+ (power), 2 V- (power), 3 AC (power), 4 AC (power)

## DG340-3.81-02P
designator XS?  (value not drawn)
DG340-3.81-02P
footprint DG340-3.81-02P
pins: 1, 2

## DMR-06-V
designator SA?  (value not drawn)
DMR-06-V
footprint DMR-06-V
pins: 1, 2, 3, 4, 5, 6, 7, 8, 9, 10, 11, 12

## DS18B20
designator U?, comment DS18B20+
Programmable Resolution Digital Thermometer, 1-Wire Interface, ±0.5°C Accuracy, 3-Pin TO92, -55°C to +125°C, Pb-Free; ComponentLink2URL: http://datasheets.maxim-ic.com/en/ds/DS18B20.pdf; PackageReference: Q3+1; ComponentLink1Description: Manufacturer URL; PackageDescription: TO-92 Package, Body Dia. 4.7mm; Leads 0.51 x 0.51 mm (max), Pb-Free; DatasheetVersion: 2007; Code_JEDEC: TO-226-AA; ComponentLink1URL: http://www.maxim-ic.com; PackageVersion: revB, 2009; ComponentLink2Description: Datasheet
footprint Q3+1 (TO, Flat Index; 3 In-Line, Axial Leads; Body Dia. 4.7mm; Leads 0.56 x 0.51 mm (max))
pins: 1 GND (power), 2 DQ (io), 3 VDD (power)

## DS2405
designator U?
DatasheetVersion: Apr-2009; PackageVersion: revE, 2011; PackageReference: D6+1; PackageDescription: Thin Small-Outline, 6 C-Leads, 3.9 x 3.8 mm Body, 1.27 mm Pitch, TSOC, Pb-Free
footprint D6+1 (Small Outline; 6 C-Bend Leads; Body Width 3.8 mm; Pitch 1.27 mm, Maxim Recommended)
pins: 1 GND (power), 2 DATA (io), 3 PIO (io), 4 NC (power), 5 NC, 6 NC

## DS2406P
designator U?, comment DS2406P+
Dual Addressable Switch Plus 1Kb Memory, 6-pin TSOC, -40° to + 85° C, Pb-Free; DatasheetVersion: Apr-2009; PackageVersion: revE, 2011; PackageReference: D6+1; PackageDescription: Thin Small-Outline, 6 C-Leads, 3.9 x 3.8 mm Body, 1.27 mm Pitch, TSOC, Pb-Free
footprint D6+1 (Small Outline; 6 C-Bend Leads; Body Width 3.8 mm; Pitch 1.27 mm, Maxim Recommended)
pins: 1 GND (power), 2 DATA (io), 3 PIO-A (io), 4 VCC (power), 5 NC, 6 PIO-B (io)

## DS2413
designator U?, comment DS2413P+
1-Wire Dual Channel Addressable Switch, 6-pin TSOC, 0° to + 70° C, Pb-Free; PackageDescription: Thin Small-Outline, 6 C-Leads, 3.9 x 3.8 mm Body, 1.27 mm Pitch, TSOC, Pb-Free; PackageVersion: revE, 2011; DatasheetVersion: Jul-2010; PackageReference: D6+1
footprint D6+1 (Small Outline; 6 C-Bend Leads; Body Width 3.8 mm; Pitch 1.27 mm, Maxim Recommended)
pins: 1 GND1 (power), 2 IO (io), 3 NC, 4 PIOB (io), 5 GND2 (power), 6 PIOA (io)

## DS2490
designator U?
DS2490, SO-24
footprint SOIC-24/300 (SOIC, 24-Leads, Pitch 1,27mm)
pins: 1 PMOD, 2 NC, 3 NC, 4 NC, 5 VB, 6 SUSO, 7 D-, 8 D+, 9 NC, 10 1-WIRE, 11 NC, 12 GND, 13 NC, 14 NC, 15 NC, 16 NC, 17 VD2, 18 NC, 19 XI, 20 XO, 21 NC, 22 NC, 23 NC, 24 VCC

## EM-6050(p)
designator BM?  (value not drawn)
Microphone
footprint EM-6050(p)
pins: 1, 2

## ENC28J60-I/SO
designator U?
Stand-Alone Ethernet Controller with SPI Interface, 28-Pin SOIC, Industrial Temperature; Code_JEDEC: MS-013; ComponentLink2URL: http://ww1.microchip.com/downloads/en/DeviceDoc/39662c.pdf; PackageDescription: 28-Lead Plastic Small Outline (SO) - Wide 7.50mm Body [SOIC]; RevisionNote: URLs added.; ComponentLink2Description: Datasheet; ComponentLink1Description: Manufacturer URL; ComponentLink3Description: Package Specification; DatasheetVersion: revC, Jan-2008; ComponentLink1URL: http://www.microchip.com/; ComponentLink3URL: http://www.microchip.com/stellent/groups/techpub_sg/documents/packagingspec/en012702.pdf; PackageVersion: revBB, Aug-2009; PackageReference: SOIC-SO28
footprint SO-28_M (SOIC, 28-Leads, Body 17.9x7.5mm, Pitch 1.27mm, IPC Low Density)
footprint SO-28_L (SOIC, 28-Leads, Body 17.9x7.5mm, Pitch 1.27mm, IPC High Density)
footprint SO-28_N (SOIC, 28-Leads, Body 17.9x7.5mm, Pitch 1.27mm, IPC Medium Density)
pins: 1 VCAP (power), 2 VSS (power), 3 CLKOUT (out), 4 ~{INT} (out), 5 NC, 6 SO (out), 7 SI (in), 8 SCK (in), 9 ~{CS} (in), 10 ~{RESET} (in), 11 VSSRX (power), 12 TPIN- (in), 13 TPIN+ (in), 14 RBIAS (in), 15 VDDTX (power), 16 TPOUT- (out), 17 TPOUT+ (out), 18 VSSTX (power), 19 VDDRX (power), 20 VDDPLL (power), 21 VSSPLL (power), 22 VSSOSC (power), 23 OSC1 (in), 24 OSC2 (out), 25 VDDOSC (power), 26 LEDB (out), 27 LEDA (out), 28 VDD (power)

## ESP_12
designator U?
ESP-12 Wi-Fi Module by AI-Thinker; IC: ESP8266-EX; Vendor: Ai-thinker
footprint ESP_12 (ESP-12 Wi-Fi Module by AI-Thinker)
pins: 1 ~{RST} "Reset", 2 ADC/TOUT "ADC Input Or TOUT Output", 3 EN "Chip enable", 4 GPIO16/~{WAKE} "GPIO16 or Deep-Sleep Wakeup", 5 GPIO14/HSPICLK "GPIO14 or SPI CLK", 6 GPIO12/HSPIQ "GPIO12 or SPIQ", 7 GPIO13/HSPID/CTS0/RXD2 "GPIO13 or SPID", 8 VDD "Power supply", 9 GND "Power ground", 10 GPIO15/HSPICS/RTS0/TXD2 "GPIO15 or SPICS", 11 GPIO2/TXD1 "GPIO2 or TX", 12 GPIO0/SPICS2 "GPIO0 or SPICS2", 13 GPIO4 "GPIO5", 14 GPIO5 "GPIO4", 15 GPIO3/RXD0 "GPIO3 or UART RXD", 16 GPIO1/SPICS1/TXD0 "GPIO1 or UART TXD"

## ESP_12_E
designator U?
ESP-12 Wi-Fi Module by AI-Thinker; IC: ESP8266-EX; Vendor: Ai-thinker
footprint ESP_12_E (ESP-12 Wi-Fi Module by AI-Thinker)
footprint ESP_12_E_L (ESP-12 Wi-Fi Module by AI-Thinker)
pins: 1 ~{RST} "Reset", 2 ADC/TOUT "ADC Input Or TOUT Output", 3 EN "Chip enable", 4 GPIO16/~{WAKE} "GPIO16 or Deep-Sleep Wakeup", 5 GPIO14/HSPICLK "GPIO14 or SPI CLK", 6 GPIO12/HSPIQ "GPIO12 or SPIQ", 7 GPIO13/HSPID/CTS0/RXD2 "GPIO13 or SPID", 8 VDD "Power supply", 9 SPI_MOSI/SD_CMD "GPIO14 or SPI CLK", 10 SPI_MISO/SD_D0 "GPIO12 or SPIQ", 11 GPIO9/SD_D2 "GPIO13 or SPID", 12 GPIO10/SPI_CS/SD_D3 "GPIO15 or SPICS", 13 SPI_INT/SD_D1 "GPIO2 or TX", 14 SPI_CLK/SD_CLK "GPIO0 or SPICS2", 15 GND "Power ground", 16 GPIO15/HSPICS/RTS0/TXD2 "GPIO15 or SPICS", 17 GPIO2/TXD1 "GPIO2 or TX", 18 GPIO0/SPICS2 "GPIO0 or SPICS2", 19 GPIO4 "GPIO5", 20 GPIO5 "GPIO4", 21 GPIO3/RXD0 "GPIO3 or UART RXD", 22 GPIO1/SPICS1/TXD0 "GPIO1 or UART TXD"

## H11AA1
designator U?, comment H11AA1SR2M
AC Input Phototansistor Optocoupler, 1.17 V, 50 mA, -40 to 100 degC, 6-Pin SMT, RoHS, Tape and Reel; Manufacturer: Fairchild Semiconductor; Current - DC Forward (If) (Max): 60mA; Current Transfer Ratio (Min): 20%@10mA; Voltage - Forward (Vf) (Typ): 1.17V; Input Type: AC,DC; Current - Output / Channel: 50mA; Vce Saturation (Max): 400mV; Other Names: H11AA1SR2MDKR; Output Type: TransistorwithBase; Voltage - Output (Max): 30V; Number of Channels: 1; Voltage - Isolation: 4170Vrms; Online Catalog: H11AA1M,2M,3M,4MSeries; Manufacturer URL: https://www.fairchildsemi.com/; Packaging: Digi-Reel®; Current Transfer Ratio (Max): -; Category: Isolators; Operating Temperature: -40°C~100°C; Mounting Technology: SurfaceMount; Datasheet URL: https://www.fairchildsemi.com/datasheets/H1/H11AA1M.pdf; Package / Case: 6-SMD; Supplier Device Package: 6-SMD; Datasheet Version: Rev. 1.3, 04/2015; Standard Package: 1; Turn On / Turn Off Time (Typ): -; Rise / Fall Time (Typ): -; Package Reference: SMT-6; Family: Optoisolators-Transistor,PhotovoltaicOutput; Package Description: 6-Pin Surface Mount Device, Body 8.51 x 6.35 mm, Pitch 2.54 mm; Mounting Type: SurfaceMount; Series: -
footprint SMT-6 (SMT, 6-Leads, Body 8.51x6.35mm, Pitch 2.54mm)
pins: 1 C, 2 C, 3 NC, 4 EMITTER, 5 COLLECTOR, 6 BASE

## Header 17X2
designator P?
Header, 17-Pin, Dual row; LatestRevisionDate: 17-Jul-2002; LatestRevisionNote: Re-released for DXP Platform.; Publisher: Altium Limited
footprint HDR2X17 (Connector; Header; 17x2 Position)
signal-integrity model Connector
footprint HDR2X17-PLC (Connector; Header; 17x2 Position)
footprint HDR2X17-PBD (Connector; Header; 17x2 Position)
pins: 1, 2, 3, 4, 5, 6, 7, 8, 9, 10, 11, 12, 13, 14, 15, 16, 17, 18, 19, 20, 21, 22, 23, 24, 25, 26, 27, 28, 29, 30, 31, 32, 33, 34

## Inductor
designator L?
Inductor; Value: *
footprint 0402-A (Chip Inductor, Body 1.0x0.5mm, IPC High Density)
footprint INDC1608L (Chip Inductor, Body 1.6x0.8mm, IPC High Density)
footprint 2029 (Chip Inductor, Body 2.0x1.2mm, IPC High Density)
footprint 0603 (Chip Inductor, Body 0.6x0.3mm, IPC High Density)
footprint INDC3216 (Chip Inductor, Body 3.2x1.6mm, IPC High Density)
footprint INDC4532 (Chip Inductor, Body 4.5x3.2mm, IPC High Density)
footprint IND_1206 (Chip Inductor, 2-Leads, Body 3.40x1.80mm, IPC Medium Density)
pins: 1, 2

## Inductor power
designator L?
Inductor for Power Circuits; Value: *
footprint SDR1006_SMD (SMD, 2-Leads, Body 9.8x9.8mm)
footprint IHLP2525 (SMD, 2-Leads, Body 7.24x6.72mm)
pins: 1, 2

## IRF7105
designator VT?
IRF7105, SO8
footprint SOIC8 (SOIC, 8-Leads, Body 4,90x3,90mm, Pitch 1,27mm, IPC Medium Density)
pins: 1, 2, 3, 4, 5, 6, 7, 8

## IRFZ44N
designator Q?
N-channel Enhancement Mode Power MOSFET 49A/55V
footprint TO-220 (FM, 3-Leads, Body 10.2x4.7mm, Pitch 2.54mm)
pins: 1 G, 2 D, 3 S

## IRLML2502
designator Q?
N-Channel HEXFET(R) Power MOSFET, 20 V VDS, +/- 12 V VGS, 4.2 A, 3-Pin SOT23, RoHS, Tape and Reel; Manufacturer: International Rectifier; Drain-to-Source Voltage [Vdss]: 20V; Drain-Source On Resistance-Max: 0.045O; Qg Gate Charge: 8nC; Rated Power Dissipation: 1.25W; Package Reference: SOT-23-3; Manufacturer URL: http://internationalrectifier.com/; Package Description: 3-Pin Small Outline Transistor, Body 2.92 x 1.3 mm, Pitch 0.95 mm; Datasheet Version: Apr-14; Channel Type: N-Channel; Datasheet URL: https://datasheet.ciiva.com/6383/irlml2502pbf-6383216.pdf
footprint SOT23_L (SOT23, 3-Leads, Body 2.9x1.3 mm, Pitch 0.95 mm, IPC High Density)
footprint SOT23_M (SOT23, 3-Leads, Body 2.9x1.3 mm, Pitch 0.95 mm, IPC Low Density)
footprint SOT23_N (SOT23, 3-Leads, Body 2.9x1.3 mm, Pitch 0.95 mm, IPC Medium Density)
pins: 1 G, 2 S, 3 D

## IRLML6402
designator Q?
HEXFET(R) Power P-Channel MOSFET, -20 V, -3.7 A, -55 to 150 degC, 3-Pin SOT-23, RoHS, Tape and Reel; Manufacturer: International Rectifier; Drain-to-Source Voltage [Vdss]: 20V; Rated Power Dissipation: 1.3W; Qg Gate Charge: 8nC; Drain-Source On Resistance-Max: 0.065O; Channel Type: P-Channel; Package Reference: SOT-23-3; Manufacturer URL: http://internationalrectifier.com/; Datasheet URL: http://datasheet.octopart.com/IRLML6402TRPBF-International-Rectifier-datasheet-93882.pdf; Datasheet Version: Feb-05; Package Description: 3-Pin Small Outline Transistor, Body 2.92 x 1.3 mm, Pitch 0.95 mm
footprint SOT23_N (SOT23, 3-Leads, Body 2.9x1.3 mm, Pitch 0.95 mm, IPC Medium Density)
pins: 1 GATE, 2 SOURCE, 3 DRAIN

## JST-XH-A 2
designator P?
XH Series Disconnectable Crimp Style Connector, Pitch 2.5 mm, 1 x  Position, Height 6.1 mm, Tail Length 3.4 mm, -25 to 85 degC, RoHS, Bulk; Manufacturer: JST; Manufacturer URL: http://www.jst.com/home2.html; Datasheet Version: 42491.0; Package Description: XH Series Disconnectable Crimp Style Connector, Pitch 2.5 mm, 1 x 4 Position, Height 6.1 mm, Tail Length 3.4 mm; Package Reference: S4B-XH-A(LF)(SN); Datasheet URL: http://www.jst-mfg.com/product/pdf/eng/eXH.pdf
footprint JST-S2B-XH-A (Header, 2-Leads, Body 12.4x11.5mm, Pitch 2.5mm)
pins: 1, 2

## JST-XH-A 3
designator P?
XH Series Disconnectable Crimp Style Connector, Pitch 2.5 mm, 1 x 3 Position, Height 6.1 mm, Tail Length 3.4 mm, -25 to 85 degC, RoHS, Bulk; Manufacturer: JST; Manufacturer URL: http://www.jst.com/home2.html; Datasheet Version: 42491.0; Package Description: XH Series Disconnectable Crimp Style Connector, Pitch 2.5 mm, 1 x 4 Position, Height 6.1 mm, Tail Length 3.4 mm; Package Reference: S4B-XH-A(LF)(SN); Datasheet URL: http://www.jst-mfg.com/product/pdf/eng/eXH.pdf
footprint JST-S3B-XH-A (Header, 3-Leads, Body 12.4x11.5mm, Pitch 2.5mm)
pins: 1, 2, 3

## JST-XH-A 4
designator P?
XH Series Disconnectable Crimp Style Connector, Pitch 2.5 mm, 1 x 4 Position, Height 6.1 mm, Tail Length 3.4 mm, -25 to 85 degC, RoHS, Bulk; Manufacturer: JST; Manufacturer URL: http://www.jst.com/home2.html; Datasheet Version: 42491.0; Package Description: XH Series Disconnectable Crimp Style Connector, Pitch 2.5 mm, 1 x 4 Position, Height 6.1 mm, Tail Length 3.4 mm; Package Reference: S4B-XH-A(LF)(SN); Datasheet URL: http://www.jst-mfg.com/product/pdf/eng/eXH.pdf
footprint JST-S4B-XH-A (Header, 4-Leads, Body 12.4x11.5mm, Pitch 2.5mm)
pins: 1, 2, 3, 4

## JST-XH-A 5
designator P?
XH Series Disconnectable Crimp Style Connector, Pitch 2.5 mm, 1 x 5 Position, Height 6.1 mm, Tail Length 3.4 mm, -25 to 85 degC, RoHS, Bulk; Manufacturer: JST; Manufacturer URL: http://www.jst.com/home2.html; Datasheet Version: 42491.0; Package Description: XH Series Disconnectable Crimp Style Connector, Pitch 2.5 mm, 1 x 4 Position, Height 6.1 mm, Tail Length 3.4 mm; Package Reference: S4B-XH-A(LF)(SN); Datasheet URL: http://www.jst-mfg.com/product/pdf/eng/eXH.pdf
footprint JST-S5B-XH-A (Header, 5-Leads, Body 12.4x11.5mm, Pitch 2.5mm)
pins: 1, 2, 3, 4, 5